# EAGLE library part ARDUINO_UNO (library ArduinoUno)
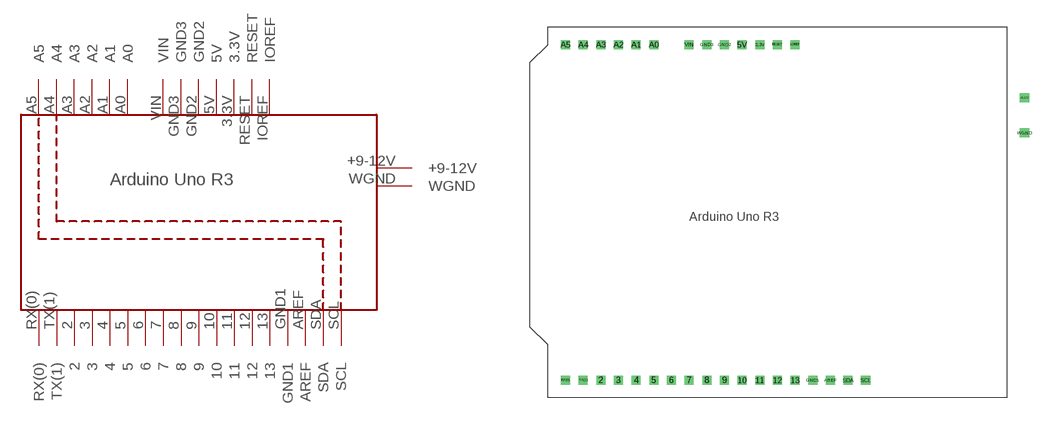
[diagram p0: symbol with the pads of ARDUINO_UNO; footprint ARDUINO_UNO]

Designator prefix -

## ARDUINO_UNO  [ARDUINO_UNO]
2  2
3  3
3.3V  3.3V
4  4
5  5
5V  5V
6  6
7  7
8  8
9  9
10  10
11  11
12  12
13  13
+9-12V  +9-12V
A0  A0
A1  A1
A2  A2
A3  A3
A4  A4
A5  A5
AREF  AREF
GND1  GND1
GND2  GND2
GND3  GND3
IOREF  IOREF
RESET  RESET
RX(0)  RX(0)
SCL  SCL
SDA  SDA
TX(1)  TX(1)
VIN  VIN
WGND  WGND

## Footprint ARDUINO_UNO (pad centres in mm)
drill 0.8 square: 2 5.08,0; 3 7.62,0; 3.3V 27.94,48.26; 4 10.16,0; 5 12.7,0; 5V 25.4,48.26; 6 15.24,0; 7 17.78,0; 8 20.32,0; 9 22.86,0; 10 25.4,0; 11 27.94,0; 12 30.48,0; 13 33.02,0; +9-12V 66.04,40.64; A0 12.7,48.26; A1 10.16,48.26; A2 7.62,48.26; A3 5.08,48.26; A4 2.54,48.26; A5 0,48.26; AREF 38.1,0; GND1 35.56,0; GND2 22.86,48.26; GND3 20.32,48.26; IOREF 33.02,48.26; RESET 30.48,48.26; RX(0) 0,0; SCL 43.18,0; SDA 40.64,0; TX(1) 2.54,0; VIN 17.78,48.26; WGND 66.04,35.56